# EAGLE library part B20B-XH-A (library jst-xh)
Wire-to-Board 2.5mm pitch top mount connector Source: http://www.jst-mfg.com/product/pdf/jpn/XH.pdf http://www.jst-mfg.com/product/detail.php?series=277
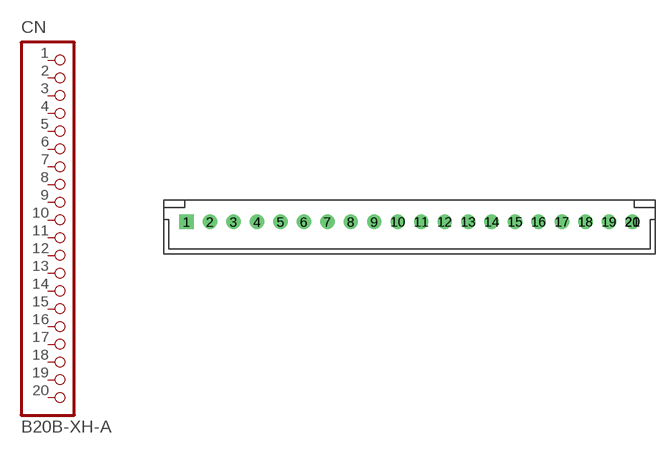
[diagram p11: symbol with the pads of B20B-XH-A; footprint B20B-XH-A]

Designator prefix CN

## B20B-XH-A  [B20B-XH-A]
1  1  pas
2  2  pas
3  3  pas
4  4  pas
5  5  pas
6  6  pas
7  7  pas
8  8  pas
9  9  pas
10  10  pas
11  11  pas
12  12  pas
13  13  pas
14  14  pas
15  15  pas
16  16  pas
17  17  pas
18  18  pas
19  19  pas
20  20  pas

## Footprint B20B-XH-A (pad centres in mm)
drill 1.016 square: 1 -23.75,0
drill 1.016: 2 -21.25,0; 3 -18.75,0; 4 -16.25,0; 5 -13.75,0; 6 -11.25,0; 7 -8.75,0; 8 -6.25,0; 9 -3.75,0; 10 -1.25,0; 11 1.25,0; 12 3.75,0; 13 6.25,0; 14 8.75,0; 15 11.25,0; 16 13.75,0; 17 16.25,0; 18 18.75,0; 19 21.25,0; 20 23.75,0; 21 23.75,0